# EAGLE library part ITSY_BITSY_M4 (library Adafruit_Arduino)
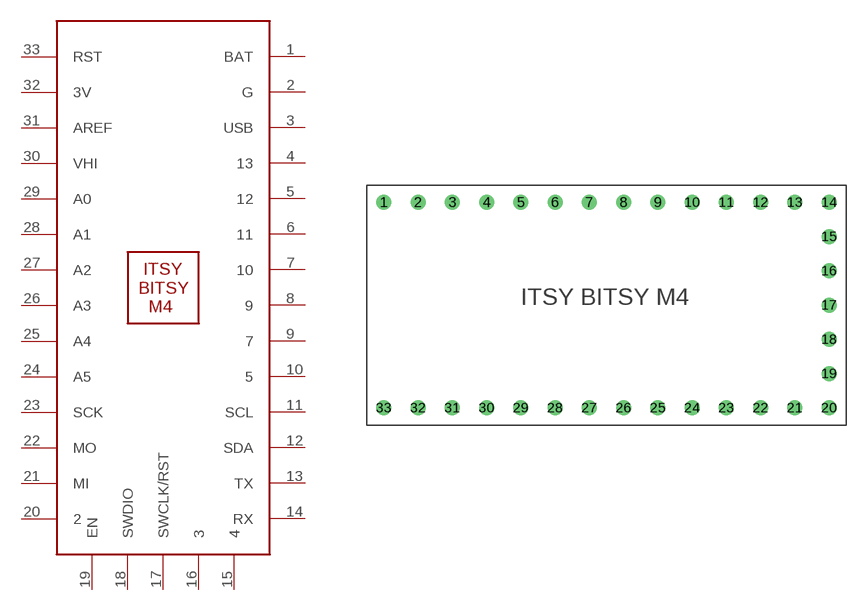
[diagram p0: symbol with the pads of ITSY_BITSY_M4; footprint ITSY_BITSY_M4]

Designator prefix -

## ITSY_BITSY_M4  [ITSY_BITSY_M4]
1  BAT  out
2  G
3  USB
4  13
5  12
6  11
7  10
8  9
9  7
10  5
11  SCL
12  SDA
13  TX
14  RX
15  4
16  3
17  SWCLK/RST
18  SWDIO
19  EN
20  2
21  MI
22  MO
23  SCK
24  A5
25  A4
26  A3
27  A2
28  A1
29  A0
30  VHI
31  AREF
32  3V
33  RST

## Footprint ITSY_BITSY_M4 (pad centres in mm)
drill 0.6: 1 -16.51,7.62; 2 -13.97,7.62; 3 -11.43,7.62; 4 -8.89,7.62; 5 -6.35,7.62; 6 -3.81,7.62; 7 -1.27,7.62; 8 1.27,7.62; 9 3.81,7.62; 10 6.35,7.62; 11 8.89,7.62; 12 11.43,7.62; 13 13.97,7.62; 14 16.51,7.62; 15 16.51,5.08; 16 16.51,2.54; 17 16.51,0; 18 16.51,-2.54; 19 16.51,-5.08; 20 16.51,-7.62; 21 13.97,-7.62; 22 11.43,-7.62; 23 8.89,-7.62; 24 6.35,-7.62; 25 3.81,-7.62; 26 1.27,-7.62; 27 -1.27,-7.62; 28 -3.81,-7.62; 29 -6.35,-7.62; 30 -8.89,-7.62; 31 -11.43,-7.62; 32 -13.97,-7.62; 33 -16.51,-7.62